# Altium schematic symbol library Motor.SchLib: 23 symbols
Pins are listed as number, name and electrical type; pins without a type are passive.

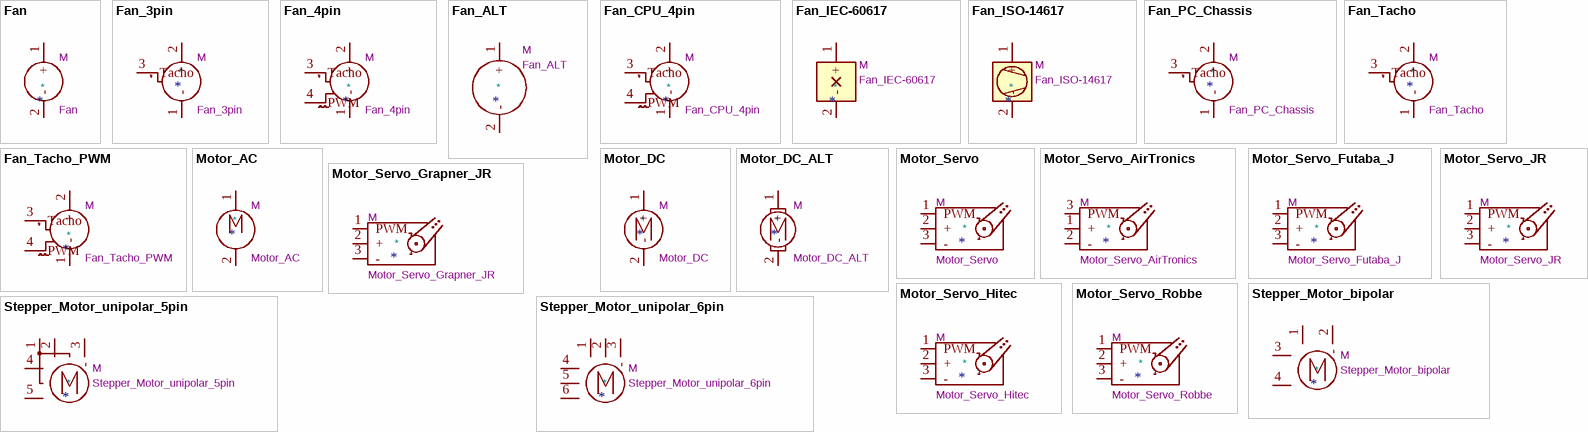
[diagram p0: symbols Fan to Stepper_Motor_unipolar_6pin]

## Fan
designator *  value Fan  Reference: M
Fan; ki_keywords: Fan Motor; ki_fp_filters: PinHeader*P2.54mm* TerminalBlock*; Datasheet: ~; Description_: Fan
pins: 1 +, 2 -

## Fan_3pin
designator *  value Fan_3pin  Reference: M
Fan, tacho output, 3-pin connector; ki_keywords: Fan Motor tacho; ki_fp_filters: FanPinHeader*P2.54mm*Vertical* PinHeader*P2.54mm*Vertical* TerminalBlock*; Datasheet: http://www.hardwarecanucks.com/forum/attachments/new-builds/16287d1330775095-help-chassis-power-fan-connectors-motherboard-asus_p8z68.jpg; Description_: Fan, tacho output, 3-pin connector
pins: 1 -, 2 +, 3 Tacho

## Fan_4pin
designator *  value Fan_4pin  Reference: M
Fan, tacho output, PWM input, 4-pin connector; ki_keywords: Fan Motor tacho PWM; ki_fp_filters: FanPinHeader*P2.54mm*Vertical* PinHeader*P2.54mm*Vertical* TerminalBlock*; Datasheet: http://www.formfactors.org/developer%5Cspecs%5Crev1_2_public.pdf; Description_: Fan, tacho output, PWM input, 4-pin connector
pins: 1 -, 2 +, 3 Tacho, 4 PWM

## Fan_ALT
designator *  value Fan_ALT  Reference: M
Fan without PWM or tach, alternative symbol; ki_keywords: Fan Motor; ki_fp_filters: PinHeader*P2.54mm* TerminalBlock*; Datasheet: ~; Description_: Fan without PWM or tach, alternative symbol
pins: 1 +, 2 -

## Fan_CPU_4pin
designator *  value Fan_CPU_4pin  Reference: M
CPU Fan, tacho output, PWM input, 4-pin connector; ki_keywords: Fan Motor tacho PWM; ki_fp_filters: FanPinHeader*P2.54mm*Vertical* PinHeader*P2.54mm*Vertical* TerminalBlock*; Datasheet: http://www.formfactors.org/developer%5Cspecs%5Crev1_2_public.pdf; Description_: CPU Fan, tacho output, PWM input, 4-pin connector
pins: 1 -, 2 +, 3 Tacho, 4 PWM

## Fan_IEC-60617
designator *  value Fan_IEC-60617  Reference: M
Fan according to IEC 60617; ki_keywords: fan motor iec 60617; ki_fp_filters: PinHeader*P2.54mm* TerminalBlock*; Datasheet: ~; Description_: Fan according to IEC 60617
pins: 1 +, 2 -

## Fan_ISO-14617
designator *  value Fan_ISO-14617  Reference: M
Fan 2302 according to ISO 14617; ki_keywords: fan motor iso 14617; ki_fp_filters: PinHeader*P2.54mm* TerminalBlock*; Datasheet: ~; Description_: Fan 2302 according to ISO 14617
pins: 1 +, 2 -

## Fan_PC_Chassis
designator *  value Fan_PC_Chassis  Reference: M
PC chassis fan, tacho output, 3-pin connector; ki_keywords: Fan Motor tacho; ki_fp_filters: FanPinHeader*P2.54mm*Vertical* PinHeader*P2.54mm*Vertical* TerminalBlock*; Datasheet: http://www.hardwarecanucks.com/forum/attachments/new-builds/16287d1330775095-help-chassis-power-fan-connectors-motherboard-asus_p8z68.jpg; Description_: PC chassis fan, tacho output, 3-pin connector
pins: 1 -, 2 +, 3 Tacho

## Fan_Tacho
designator *  value Fan_Tacho  Reference: M
Fan, tacho output, 3-pin connector; ki_keywords: Fan Motor tacho; ki_fp_filters: FanPinHeader*P2.54mm*Vertical* PinHeader*P2.54mm*Vertical* TerminalBlock*; Datasheet: http://www.hardwarecanucks.com/forum/attachments/new-builds/16287d1330775095-help-chassis-power-fan-connectors-motherboard-asus_p8z68.jpg; Description_: Fan, tacho output, 3-pin connector
pins: 1 -, 2 +, 3 Tacho

## Fan_Tacho_PWM
designator *  value Fan_Tacho_PWM  Reference: M
Fan, tacho output, PWM input, 4-pin connector; ki_keywords: Fan Motor tacho PWM; ki_fp_filters: FanPinHeader*P2.54mm*Vertical* PinHeader*P2.54mm*Vertical* TerminalBlock*; Datasheet: http://www.formfactors.org/developer%5Cspecs%5Crev1_2_public.pdf; Description_: Fan, tacho output, PWM input, 4-pin connector
pins: 1 -, 2 +, 3 Tacho, 4 PWM

## Motor_AC
designator *  value Motor_AC  Reference: M
AC Motor; ki_fp_filters: PinHeader*P2.54mm* TerminalBlock*; Datasheet: ~; Description_: AC Motor; ki_keywords: AC Motor
pins: 1, 2

## Motor_DC
designator *  value Motor_DC  Reference: M
DC Motor; ki_fp_filters: PinHeader*P2.54mm* TerminalBlock*; Datasheet: ~; Description_: DC Motor; ki_keywords: DC Motor
pins: 1 +, 2 -

## Motor_DC_ALT
designator *  value Motor_DC_ALT  Reference: M
DC Motor, alternative symbol; ki_fp_filters: PinHeader*P2.54mm* TerminalBlock*; Datasheet: ~; Description_: DC Motor, alternative symbol; ki_keywords: DC Motor
pins: 1 +, 2 -

## Motor_Servo
designator *  value Motor_Servo  Reference: M
Servo Motor (Futaba, HiTec, JR connector); ki_fp_filters: PinHeader*P2.54mm*; Datasheet: http://forums.parallax.com/uploads/attachments/46831/74481.png; Description_: Servo Motor (Futaba, HiTec, JR connector); ki_keywords: Servo Motor
pins: 1 PWM, 2 +, 3 -

## Motor_Servo_AirTronics
designator *  value Motor_Servo_AirTronics  Reference: M
Servo Motor (AirTronics connector); ki_fp_filters: PinHeader*P2.54mm*; Datasheet: http://forums.parallax.com/uploads/attachments/46831/74481.png; Description_: Servo Motor (AirTronics connector); ki_keywords: Servo Motor
pins: 1 +, 2 -, 3 PWM

## Motor_Servo_Futaba_J
designator *  value Motor_Servo_Futaba_J  Reference: M
Servo Motor (Futuba J-connector); ki_fp_filters: PinHeader*P2.54mm*; Datasheet: http://forums.parallax.com/uploads/attachments/46831/74481.png; Description_: Servo Motor (Futuba J-connector); ki_keywords: Servo Motor
pins: 1 PWM, 2 +, 3 -

## Motor_Servo_Grapner_JR
designator *  value Motor_Servo_Grapner_JR  Reference: M
Servo Motor (Graupner JR connector); ki_fp_filters: PinHeader*P2.54mm*; Datasheet: http://forums.parallax.com/uploads/attachments/46831/74481.png; Description_: Servo Motor (Graupner JR connector); ki_keywords: Servo Motor
pins: 1 PWM, 2 +, 3 -

## Motor_Servo_Hitec
designator *  value Motor_Servo_Hitec  Reference: M
Servo Motor (HiTec connector); ki_fp_filters: PinHeader*P2.54mm*; Datasheet: http://forums.parallax.com/uploads/attachments/46831/74481.png; Description_: Servo Motor (HiTec connector); ki_keywords: Servo Motor
pins: 1 PWM, 2 +, 3 -

## Motor_Servo_JR
designator *  value Motor_Servo_JR  Reference: M
Servo Motor (JR connector); ki_fp_filters: PinHeader*P2.54mm*; Datasheet: http://forums.parallax.com/uploads/attachments/46831/74481.png; Description_: Servo Motor (JR connector); ki_keywords: Servo Motor
pins: 1 PWM, 2 +, 3 -

## Motor_Servo_Robbe
designator *  value Motor_Servo_Robbe  Reference: M
Servo Motor (Robbe connector); ki_fp_filters: PinHeader*P2.54mm*; Datasheet: http://forums.parallax.com/uploads/attachments/46831/74481.png; Description_: Servo Motor (Robbe connector); ki_keywords: Servo Motor
pins: 1 PWM, 2 +, 3 -

## Stepper_Motor_bipolar
designator *  value Stepper_Motor_bipolar  Reference: M
4-wire bipolar stepper motor; ki_fp_filters: PinHeader*P2.54mm*Vertical* TerminalBlock* Motor*; Datasheet: http://www.infineon.com/dgdl/Application-Note-TLE8110EE_driving_UniPolarStepperMotor_V1.1.pdf?fileId=db3a30431be39b97011be5d0aa0a00b0; Description_: 4-wire bipolar stepper motor; ki_keywords: bipolar stepper motor
pins: 1, 2 -, 3, 4

## Stepper_Motor_unipolar_5pin
designator *  value Stepper_Motor_unipolar_5pin  Reference: M
5-wire unipolar stepper motor; ki_fp_filters: PinHeader*P2.54mm* TerminalBlock*; Datasheet: http://www.infineon.com/dgdl/Application-Note-TLE8110EE_driving_UniPolarStepperMotor_V1.1.pdf?fileId=db3a30431be39b97011be5d0aa0a00b0; Description_: 5-wire unipolar stepper motor; ki_keywords: unipolar stepper motor
pins: 1, 2, 3 -, 4, 5

## Stepper_Motor_unipolar_6pin
designator *  value Stepper_Motor_unipolar_6pin  Reference: M
6-wire unipolar stepper motor; ki_fp_filters: PinHeader*P2.54mm* TerminalBlock*; Datasheet: http://www.infineon.com/dgdl/Application-Note-TLE8110EE_driving_UniPolarStepperMotor_V1.1.pdf?fileId=db3a30431be39b97011be5d0aa0a00b0; Description_: 6-wire unipolar stepper motor; ki_keywords: unipolar stepper motor
pins: 1, 2, 3 -, 4, 5, 6